# Altium footprint library LED_Lighting_Drivers.PcbLib: 1 footprints
Each footprint in its own frame and in the unit in brackets; x right, y up, seen from the top. Pads: shape width x height; smd on the part's side, far side on the other; paste and mask are expansions set on the pad; w line width, h text height; cw(c..) or ccw(c..) is an arc to the next point about the centre after c.
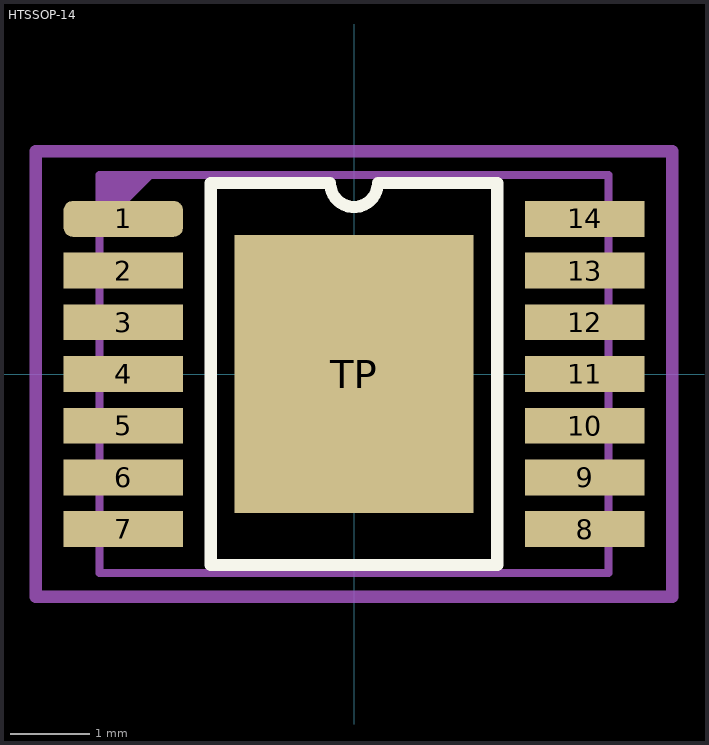
[diagram p0: the footprint, top view; thin cyan lines are the x and y axes]

## HTSSOP-14 [mm]
pads (15):
  rrect50% 1.5x0.45 smd: 1(-2.9,1.95)
  rect 1.5x0.45 smd: 2(-2.9,1.3) 3(-2.9,0.65) 4(-2.9,0) 5(-2.9,-0.65) 6(-2.9,-1.3) 7(-2.9,-1.95) 8(2.9,-1.95) 9(2.9,-1.3) 10(2.9,-0.65) 11(2.9,0) 12(2.9,0.65) 13(2.9,1.3) 14(2.9,1.95)
  rect 3x3.5 smd: TP(0,0)
Top Overlay:
  lines w0.153: -1.8,-2.4 -1.8,2.4 -0.3,2.4 ccw(c0,2.4) 0.3,2.4 1.8,2.4 1.8,-2.4 -1.8,-2.4
Top Assembly:
  region: -3.2,2.5 -2.5,2.5 -3.2,1.8
  lines w0.1: -3.2,-2.5 -3.2,2.5 3.2,2.5 3.2,-2.5 -3.2,-2.5
  text "'.Designator'" at -4.532,-0.333 h0.8
Top Courtyard (Mech6):
  lines w0.153: -0.3,0 0.3,0 ; 0,-0.3 0,0.3 ; -4,-2.8 4,-2.8 4,2.8 -4,2.8 -4,-2.8
3D body "User Library-HTSSOP14 -1.step": height 1.11, standoff -0.01, extent -3.191,-2.491 3.191,2.491